# Altium footprint library AMAP4PEVB_Rev3.PcbLib: 7 footprints
Each footprint in its own frame and in the unit in brackets; x right, y up, seen from the top. Pads: shape width x height; smd on the part's side, far side on the other; paste and mask are expansions set on the pad; w line width, h text height; cw(c..) or ccw(c..) is an arc to the next point about the centre after c.
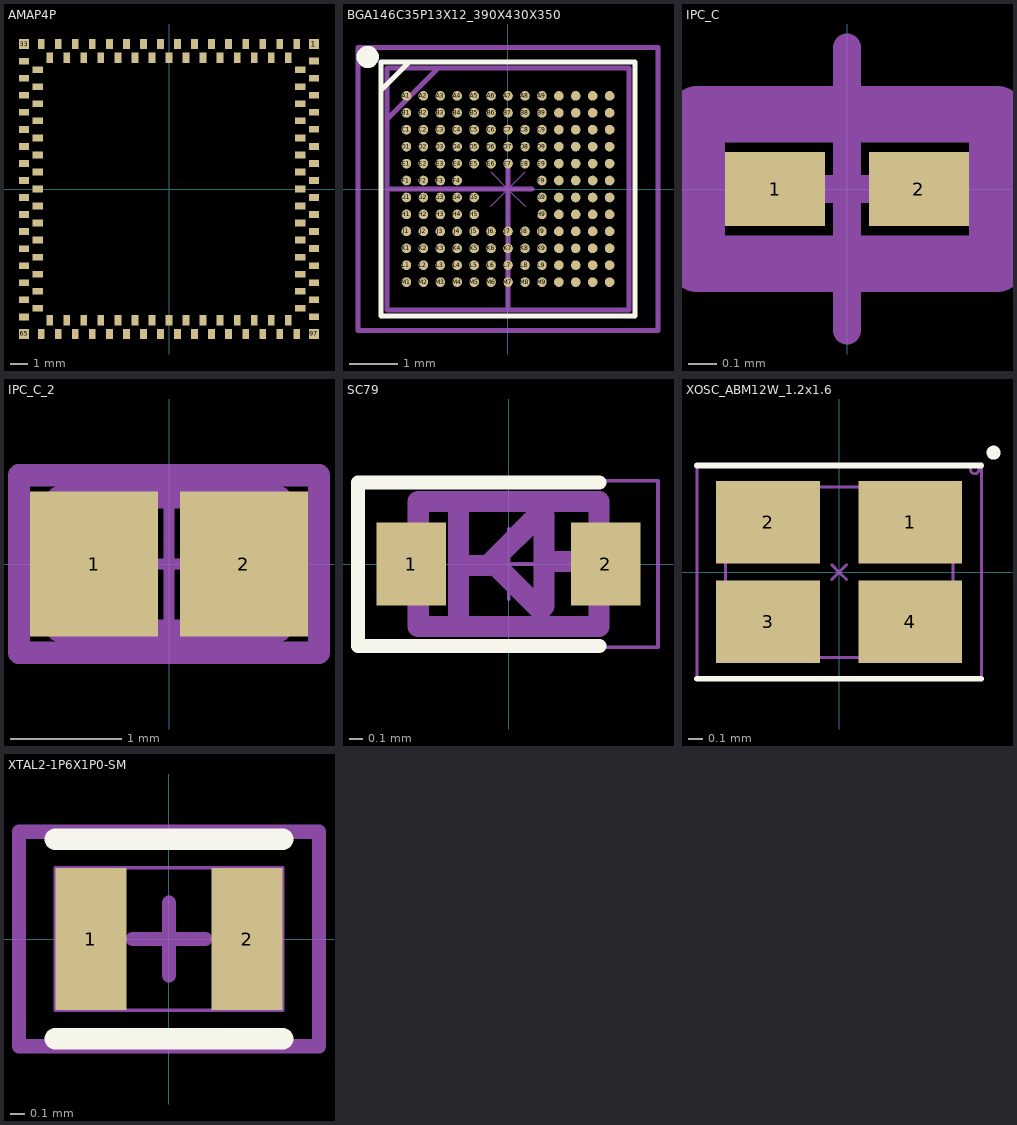
[diagram p0: the footprints below, top view; thin cyan lines are the x and y axes]

## AMAP4P [mm]
pads (128):
  rect 0.6x0.6 smd: 1(8.5,8.5) 33(-8.5,8.5) 65(-8.5,-8.5) 97(8.5,-8.5)
  rect 0.4x0.6 smd: 2(7.5,8.5) 3(7,7.7) 4(6.5,8.5) 5(6,7.7) 6(5.5,8.5) 7(5,7.7) 8(4.5,8.5) 9(4,7.7) 10(3.5,8.5) 11(3,7.7) 12(2.5,8.5) 13(2,7.7) 14(1.5,8.5) 15(1,7.7) 16(0.5,8.5) 17(0,7.7) 18(-0.5,8.5) 19(-1,7.7) 20(-1.5,8.5) 21(-2,7.7) 22(-2.5,8.5) 23(-3,7.7) 24(-3.5,8.5) 25(-4,7.7) 26(-4.5,8.5) 27(-5,7.7) 28(-5.5,8.5) 29(-6,7.7) 30(-6.5,8.5) 31(-7,7.7) 32(-7.5,8.5) 66(-7.5,-8.5) 67(-7,-7.7) 68(-6.5,-8.5) 69(-6,-7.7) 70(-5.5,-8.5) 71(-5,-7.7) 72(-4.5,-8.5) 73(-4,-7.7) 74(-3.5,-8.5) 75(-3,-7.7) 76(-2.5,-8.5) 77(-2,-7.7) 78(-1.5,-8.5) 79(-1,-7.7) 80(-0.5,-8.5) 81(0,-7.7) 82(0.5,-8.5) 83(1,-7.7) 84(1.5,-8.5) 85(2,-7.7) 86(2.5,-8.5) 87(3,-7.7) 88(3.5,-8.5) 89(4,-7.7) 90(4.5,-8.5) 91(5,-7.7) 92(5.5,-8.5) 93(6,-7.7) 94(6.5,-8.5) 95(7,-7.7) 96(7.5,-8.5)
  rect 0.6x0.4 smd: 34(-8.5,7.5) 35(-7.7,7) 36(-8.5,6.5) 37(-7.7,6) 38(-8.5,5.5) 39(-7.7,5) 40(-8.5,4.5) 41(-7.7,4) 42(-8.5,3.5) 43(-7.7,3) 44(-8.5,2.5) 45(-7.7,2) 46(-8.5,1.5) 47(-7.7,1) 48(-8.5,0.5) 49(-7.7,0) 50(-8.5,-0.5) 51(-7.7,-1) 52(-8.5,-1.5) 53(-7.7,-2) 54(-8.5,-2.5) 55(-7.7,-3) 56(-8.5,-3.5) 57(-7.7,-4) 58(-8.5,-4.5) 59(-7.7,-5) 60(-8.5,-5.5) 61(-7.7,-6) 62(-8.5,-6.5) 63(-7.7,-7) 64(-8.5,-7.5) 98(8.5,-7.5) 99(7.7,-7) 100(8.5,-6.5) 101(7.7,-6) 102(8.5,-5.5) 103(7.7,-5) 104(8.5,-4.5) 105(7.7,-4) 106(8.5,-3.5) 107(7.7,-3) 108(8.5,-2.5) 109(7.7,-2) 110(8.5,-1.5) 111(7.7,-1) 112(8.5,-0.5) 113(7.7,0) 114(8.5,0.5) 115(7.7,1) 116(8.5,1.5) 117(7.7,2) 118(8.5,2.5) 119(7.7,3) 120(8.5,3.5) 121(7.7,4) 122(8.5,4.5) 123(7.7,5) 124(8.5,5.5) 125(7.7,6) 126(8.5,6.5) 127(7.7,7) 128(8.5,7.5)

## BGA146C35P13X12_390X430X350 [mm] "BGA, 146-Leads, Body 3.91x4.31mmx3.50mm, Pitch 0.35mm"
height 3.5
pads (146):
  round 0.2 smd paste+0 mask+0.03: A1(-2.1,1.925) A2(-1.75,1.925) A3(-1.4,1.925) A4(-1.05,1.925) A5(-0.7,1.925) A6(-0.35,1.925) A7(0,1.925) A8(0.35,1.925) A9(0.7,1.925) A10(1.05,1.925) A11(1.4,1.925) A12(1.75,1.925) A13(2.1,1.925) B1(-2.1,1.575) B2(-1.75,1.575) B3(-1.4,1.575) B4(-1.05,1.575) B5(-0.7,1.575) B6(-0.35,1.575) B7(0,1.575) B8(0.35,1.575) B9(0.7,1.575) B10(1.05,1.575) B11(1.4,1.575) B12(1.75,1.575) B13(2.1,1.575) C1(-2.1,1.225) C2(-1.75,1.225) C3(-1.4,1.225) C4(-1.05,1.225) C5(-0.7,1.225) C6(-0.35,1.225) C7(0,1.225) C8(0.35,1.225) C9(0.7,1.225) C10(1.05,1.225) C11(1.4,1.225) C12(1.75,1.225) C13(2.1,1.225) D1(-2.1,0.875) D2(-1.75,0.875) D3(-1.4,0.875) D4(-1.05,0.875) D5(-0.7,0.875) D6(-0.35,0.875) D7(0,0.875) D8(0.35,0.875) D9(0.7,0.875) D10(1.05,0.875) D11(1.4,0.875) D12(1.75,0.875) D13(2.1,0.875) E1(-2.1,0.525) E2(-1.75,0.525) E3(-1.4,0.525) E4(-1.05,0.525) E5(-0.7,0.525) E6(-0.35,0.525) E7(0,0.525) E8(0.35,0.525) E9(0.7,0.525) E10(1.05,0.525) E11(1.4,0.525) E12(1.75,0.525) E13(2.1,0.525) F1(-2.1,0.175) F2(-1.75,0.175) F3(-1.4,0.175) F4(-1.05,0.175) F9(0.7,0.175) F10(1.05,0.175) F11(1.4,0.175) F12(1.75,0.175) F13(2.1,0.175) G1(-2.1,-0.175) G2(-1.75,-0.175) G3(-1.4,-0.175) G4(-1.05,-0.175) G5(-0.7,-0.175) G9(0.7,-0.175) G10(1.05,-0.175) G11(1.4,-0.175) G12(1.75,-0.175) G13(2.1,-0.175) H1(-2.1,-0.525) H2(-1.75,-0.525) H3(-1.4,-0.525) H4(-1.05,-0.525) H5(-0.7,-0.525) H9(0.7,-0.525) H10(1.05,-0.525) H11(1.4,-0.525) H12(1.75,-0.525) H13(2.1,-0.525) J1(-2.1,-0.875) J2(-1.75,-0.875) J3(-1.4,-0.875) J4(-1.05,-0.875) J5(-0.7,-0.875) J6(-0.35,-0.875) J7(0,-0.875) J8(0.35,-0.875) J9(0.7,-0.875) J10(1.05,-0.875) J11(1.4,-0.875) J12(1.75,-0.875) J13(2.1,-0.875) K1(-2.1,-1.225) K2(-1.75,-1.225) K3(-1.4,-1.225) K4(-1.05,-1.225) K5(-0.7,-1.225) K6(-0.35,-1.225) K7(0,-1.225) K8(0.35,-1.225) K9(0.7,-1.225) K10(1.05,-1.225) K11(1.4,-1.225) K12(1.75,-1.225) K13(2.1,-1.225) L1(-2.1,-1.575) L2(-1.75,-1.575) L3(-1.4,-1.575) L4(-1.05,-1.575) L5(-0.7,-1.575) L6(-0.35,-1.575) L7(0,-1.575) L8(0.35,-1.575) L9(0.7,-1.575) L10(1.05,-1.575) L11(1.4,-1.575) L12(1.75,-1.575) L13(2.1,-1.575) M1(-2.1,-1.925) M2(-1.75,-1.925) M3(-1.4,-1.925) M4(-1.05,-1.925) M5(-0.7,-1.925) M6(-0.35,-1.925) M7(0,-1.925) M8(0.35,-1.925) M9(0.7,-1.925) M10(1.05,-1.925) M11(1.4,-1.925) M12(1.75,-1.925) M13(2.1,-1.925)
Top Overlay:
  circle w0.25: c-2.899,2.73 r0.106
  lines w0.102: -2.625,2.051 -2.615,2.051 -2.042,2.625 -2.048,2.625 ; -2.625,-2.625 2.625,-2.625 2.625,2.625 -2.625,2.625 -2.625,-2.625
Top Assembly:
  lines w0.102: -2.5,1.444 -1.447,2.497 ; -2.282,2.5 -2.276,2.5 ; -2.5,-2.5 2.5,-2.5 2.5,2.5 -2.5,2.5 -2.5,-2.5 ; -2.5,-2.5 0,-2.5 0,0 -2.5,0 -2.5,-2.5
  text "MRAM Location Quadrant" at -2.511,-2.5 h0.51
Top Courtyard:
  lines w0.102: -3.1,-2.925 3.1,-2.925 3.1,2.925 -3.1,2.925 -3.1,-2.925
Top Component Center:
  lines w0.025: -0.354,-0.354 0,0 ; -0.354,0.354 0,0 ; 0.354,-0.354 0,0 ; 0.354,0.354 0,0
  lines w0.1: -0.5,0 0,0 ; 0,-0.5 0,0 ; 0,0.5 0,0 ; 0.5,0 0,0
3D body: height 0.4, standoff 0, extent 1.9,1.725 2.3,2.125
3D body: height 0.4, standoff 0, extent 1.9,1.375 2.3,1.775
3D body: height 0.4, standoff 0, extent 1.9,1.025 2.3,1.425
3D body: height 0.4, standoff 0, extent 1.55,1.725 1.95,2.125
3D body: height 0.4, standoff 0, extent 1.55,1.375 1.95,1.775
3D body: height 0.4, standoff 0, extent 1.55,1.025 1.95,1.425
3D body: height 0.4, standoff 0, extent -2.3,-2.125 -1.9,-1.725
3D body: height 0.4, standoff 0, extent -2.3,-1.775 -1.9,-1.375
3D body: height 0.4, standoff 0, extent -2.3,-1.425 -1.9,-1.025
3D body: height 0.4, standoff 0, extent -1.95,-2.125 -1.55,-1.725
3D body: height 0.4, standoff 0, extent -1.95,-1.775 -1.55,-1.375
3D body: height 0.4, standoff 0, extent -1.95,-1.425 -1.55,-1.025
3D body: height 0.4, standoff 0, extent -2.3,1.725 -1.9,2.125
3D body: height 0.4, standoff 0, extent -2.3,1.375 -1.9,1.775
3D body: height 0.4, standoff 0, extent -2.3,1.025 -1.9,1.425
3D body: height 0.4, standoff 0, extent -1.95,1.725 -1.55,2.125
3D body: height 0.4, standoff 0, extent -1.95,1.375 -1.55,1.775
3D body: height 0.4, standoff 0, extent -1.95,1.025 -1.55,1.425
3D body: height 0.4, standoff 0, extent 1.9,-2.125 2.3,-1.725
3D body: height 0.4, standoff 0, extent 1.9,-1.775 2.3,-1.375
3D body: height 0.4, standoff 0, extent 1.9,-1.425 2.3,-1.025
3D body: height 0.4, standoff 0, extent 1.55,-2.125 1.95,-1.725
3D body: height 0.4, standoff 0, extent 1.55,-1.775 1.95,-1.375
3D body: height 0.4, standoff 0, extent 1.55,-1.425 1.95,-1.025
3D body: height 0.4, standoff 0, extent -1.6,1.725 -1.2,2.125
3D body: height 0.4, standoff 0, extent -1.6,1.375 -1.2,1.775
3D body: height 0.4, standoff 0, extent -1.6,1.025 -1.2,1.425
3D body: height 0.4, standoff 0, extent -1.25,1.725 -0.85,2.125
3D body: height 0.4, standoff 0, extent -1.25,1.375 -0.85,1.775
3D body: height 0.4, standoff 0, extent -1.25,1.025 -0.85,1.425
3D body: height 0.4, standoff 0, extent -0.9,1.725 -0.5,2.125
3D body: height 0.4, standoff 0, extent -0.9,1.375 -0.5,1.775
3D body: height 0.4, standoff 0, extent -0.9,1.025 -0.5,1.425
3D body: height 0.4, standoff 0, extent -0.55,1.725 -0.15,2.125
3D body: height 0.4, standoff 0, extent -0.55,1.375 -0.15,1.775
3D body: height 0.4, standoff 0, extent -0.55,1.025 -0.15,1.425
3D body: height 0.4, standoff 0, extent -0.2,1.725 0.2,2.125
3D body: height 0.4, standoff 0, extent -0.2,1.375 0.2,1.775
3D body: height 0.4, standoff 0, extent -0.2,1.025 0.2,1.425
3D body: height 0.4, standoff 0, extent 0.15,1.725 0.55,2.125
3D body: height 0.4, standoff 0, extent 0.15,1.375 0.55,1.775
3D body: height 0.4, standoff 0, extent 0.15,1.025 0.55,1.425
3D body: height 0.4, standoff 0, extent -2.3,0.675 -1.9,1.075
3D body: height 0.4, standoff 0, extent -2.3,0.325 -1.9,0.725
3D body: height 0.4, standoff 0, extent -2.3,-0.025 -1.9,0.375
3D body: height 0.4, standoff 0, extent -1.95,0.675 -1.55,1.075
3D body: height 0.4, standoff 0, extent -1.95,0.325 -1.55,0.725
3D body: height 0.4, standoff 0, extent -1.95,-0.025 -1.55,0.375
3D body: height 0.4, standoff 0, extent -1.6,0.675 -1.2,1.075
3D body: height 0.4, standoff 0, extent -1.6,0.325 -1.2,0.725
3D body: height 0.4, standoff 0, extent -1.6,-0.025 -1.2,0.375
3D body: height 0.4, standoff 0, extent -1.25,0.675 -0.85,1.075
3D body: height 0.4, standoff 0, extent -1.25,0.325 -0.85,0.725
3D body: height 0.4, standoff 0, extent -1.25,-0.025 -0.85,0.375
3D body: height 0.4, standoff 0, extent -2.3,-0.375 -1.9,0.025
3D body: height 0.4, standoff 0, extent -2.3,-0.725 -1.9,-0.325
3D body: height 0.4, standoff 0, extent -2.3,-1.075 -1.9,-0.675
3D body: height 0.4, standoff 0, extent -1.95,-0.375 -1.55,0.025
3D body: height 0.4, standoff 0, extent -1.95,-0.725 -1.55,-0.325
3D body: height 0.4, standoff 0, extent -1.95,-1.075 -1.55,-0.675
3D body: height 0.4, standoff 0, extent -1.6,-0.375 -1.2,0.025
3D body: height 0.4, standoff 0, extent -1.6,-0.725 -1.2,-0.325
3D body: height 0.4, standoff 0, extent -1.6,-1.075 -1.2,-0.675
3D body: height 0.4, standoff 0, extent -1.25,-0.375 -0.85,0.025
3D body: height 0.4, standoff 0, extent -1.25,-0.725 -0.85,-0.325
3D body: height 0.4, standoff 0, extent -1.25,-1.075 -0.85,-0.675
3D body: height 0.4, standoff 0, extent -1.6,-1.425 -1.2,-1.025
3D body: height 0.4, standoff 0, extent -1.6,-1.775 -1.2,-1.375
3D body: height 0.4, standoff 0, extent -1.6,-2.125 -1.2,-1.725
3D body: height 0.4, standoff 0, extent -1.25,-1.425 -0.85,-1.025
3D body: height 0.4, standoff 0, extent -1.25,-1.775 -0.85,-1.375
3D body: height 0.4, standoff 0, extent -1.25,-2.125 -0.85,-1.725
3D body: height 0.4, standoff 0, extent -0.9,-1.425 -0.5,-1.025
3D body: height 0.4, standoff 0, extent -0.9,-1.775 -0.5,-1.375
3D body: height 0.4, standoff 0, extent -0.9,-2.125 -0.5,-1.725
3D body: height 0.4, standoff 0, extent -0.55,-1.425 -0.15,-1.025
3D body: height 0.4, standoff 0, extent -0.55,-1.775 -0.15,-1.375
3D body: height 0.4, standoff 0, extent -0.55,-2.125 -0.15,-1.725
3D body: height 0.4, standoff 0, extent -0.2,-1.425 0.2,-1.025
3D body: height 0.4, standoff 0, extent -0.2,-1.775 0.2,-1.375
3D body: height 0.4, standoff 0, extent -0.2,-2.125 0.2,-1.725
3D body: height 0.4, standoff 0, extent 0.15,-1.425 0.55,-1.025
3D body: height 0.4, standoff 0, extent 0.15,-1.775 0.55,-1.375
3D body: height 0.4, standoff 0, extent 0.15,-2.125 0.55,-1.725
3D body: height 0.4, standoff 0, extent 0.5,-1.425 0.9,-1.025
3D body: height 0.4, standoff 0, extent 0.5,-1.775 0.9,-1.375
3D body: height 0.4, standoff 0, extent 0.5,-2.125 0.9,-1.725
3D body: height 0.4, standoff 0, extent 0.85,-1.425 1.25,-1.025
3D body: height 0.4, standoff 0, extent 0.85,-1.775 1.25,-1.375
3D body: height 0.4, standoff 0, extent 0.85,-2.125 1.25,-1.725
3D body: height 0.4, standoff 0, extent 0.85,-0.375 1.25,0.025
3D body: height 0.4, standoff 0, extent 0.85,-0.725 1.25,-0.325
3D body: height 0.4, standoff 0, extent 0.85,-1.075 1.25,-0.675
3D body: height 0.4, standoff 0, extent 1.2,-0.375 1.6,0.025
3D body: height 0.4, standoff 0, extent 1.2,-0.725 1.6,-0.325
3D body: height 0.4, standoff 0, extent 1.2,-1.075 1.6,-0.675
3D body: height 0.4, standoff 0, extent 1.55,-0.375 1.95,0.025
3D body: height 0.4, standoff 0, extent 1.55,-0.725 1.95,-0.325
3D body: height 0.4, standoff 0, extent 1.55,-1.075 1.95,-0.675
3D body: height 0.4, standoff 0, extent 1.9,-0.375 2.3,0.025
3D body: height 0.4, standoff 0, extent 1.9,-0.725 2.3,-0.325
3D body: height 0.4, standoff 0, extent 1.9,-1.075 2.3,-0.675
3D body: height 0.4, standoff 0, extent 0.85,0.675 1.25,1.075
3D body: height 0.4, standoff 0, extent 0.85,0.325 1.25,0.725
3D body: height 0.4, standoff 0, extent 0.85,-0.025 1.25,0.375
3D body: height 0.4, standoff 0, extent 1.2,0.675 1.6,1.075
3D body: height 0.4, standoff 0, extent 1.2,0.325 1.6,0.725
3D body: height 0.4, standoff 0, extent 1.2,-0.025 1.6,0.375
3D body: height 0.4, standoff 0, extent 1.55,0.675 1.95,1.075
3D body: height 0.4, standoff 0, extent 1.55,0.325 1.95,0.725
3D body: height 0.4, standoff 0, extent 1.55,-0.025 1.95,0.375
3D body: height 0.4, standoff 0, extent 1.9,0.675 2.3,1.075
3D body: height 0.4, standoff 0, extent 1.9,0.325 2.3,0.725
3D body: height 0.4, standoff 0, extent 1.9,-0.025 2.3,0.375
3D body: height 0.58, standoff 0.18, extent -2.5,-2.5 2.5,2.5
3D body: height 0.4, standoff 0, extent 1.2,1.725 1.6,2.125
3D body: height 0.4, standoff 0, extent 1.2,1.375 1.6,1.775
3D body: height 0.4, standoff 0, extent 1.2,1.025 1.6,1.425
3D body: height 0.4, standoff 0, extent 0.85,1.725 1.25,2.125
3D body: height 0.4, standoff 0, extent 0.85,1.375 1.25,1.775
3D body: height 0.4, standoff 0, extent 0.85,1.025 1.25,1.425
3D body: height 0.4, standoff 0, extent -0.9,0.675 -0.5,1.075
3D body: height 0.4, standoff 0, extent -0.55,0.675 -0.15,1.075
3D body: height 0.4, standoff 0, extent -0.2,0.675 0.2,1.075
3D body: height 0.4, standoff 0, extent -0.9,0.325 -0.5,0.725
3D body: height 0.4, standoff 0, extent -0.55,0.325 -0.15,0.725
3D body: height 0.4, standoff 0, extent -0.2,0.325 0.2,0.725
3D body: height 0.4, standoff 0, extent 1.2,-2.125 1.6,-1.725
3D body: height 0.4, standoff 0, extent 1.2,-1.775 1.6,-1.375
3D body: height 0.4, standoff 0, extent 1.2,-1.425 1.6,-1.025
3D body: height 0.4, standoff 0, extent -0.9,-0.375 -0.5,0.025
3D body: height 0.4, standoff 0, extent -0.9,-0.725 -0.5,-0.325
3D body: height 0.4, standoff 0, extent -0.9,-1.075 -0.5,-0.675
3D body: height 0.4, standoff 0, extent -0.55,-1.075 -0.15,-0.675
3D body: height 0.4, standoff 0, extent -0.2,-1.075 0.2,-0.675
3D body: height 0.4, standoff 0, extent 0.15,-1.075 0.55,-0.675
3D body: height 0.4, standoff 0, extent 0.5,-1.075 0.9,-0.675
3D body: height 0.4, standoff 0, extent 0.5,-0.725 0.9,-0.325
3D body: height 0.4, standoff 0, extent 0.5,-0.375 0.9,0.025
3D body: height 0.4, standoff 0, extent 0.5,1.725 0.9,2.125
3D body: height 0.4, standoff 0, extent 0.5,1.375 0.9,1.775
3D body: height 0.4, standoff 0, extent 0.5,1.025 0.9,1.425
3D body: height 0.4, standoff 0, extent 0.5,0.675 0.9,1.075
3D body: height 0.4, standoff 0, extent 0.5,0.325 0.9,0.725
3D body: height 0.4, standoff 0, extent 0.5,-0.025 0.9,0.375
3D body: height 0.4, standoff 0, extent 0.15,0.675 0.55,1.075
3D body: height 0.4, standoff 0, extent 0.15,0.325 0.55,0.725

## IPC_C [mm]
pads (2):
  rect 0.354x0.263 smd mask+0.025: 1(-0.254,0) 2(0.254,0)
Top Assembly:
  lines w0.2: -0.531,-0.265 0.531,-0.265 0.531,0.265 -0.531,0.265 -0.531,-0.265
Top Courtyard:
  lines w0.2: -0.531,-0.265 0.531,-0.265 0.531,0.265 -0.531,0.265 -0.531,-0.265
Top Component Center:
  lines w0.1: -0.5,0 0.5,0 ; 0,-0.5 0,0.5
3D body: height 0.33, standoff 0, extent 0.165,-0.165 0.315,0.165
3D body: height 0.33, standoff 0, extent -0.315,-0.165 -0.165,0.165
3D body: height 0.33, standoff 0, extent -0.165,-0.165 0.165,0.165

## IPC_C_2 [mm]
pads (2):
  rect 1.154x1.306 smd mask+0.051: 1(-0.676,0) 2(0.676,0)
Top Assembly:
  lines w0.2: -1.353,-0.8 1.353,-0.8 1.353,0.8 -1.353,0.8 -1.353,-0.8
Top 3D Body:
  lines w0.2: -1,-0.6 1,-0.6 1,0.6 -1,0.6 -1,-0.6
Top Courtyard:
  lines w0.2: -1.353,-0.8 1.353,-0.8 1.353,0.8 -1.353,0.8 -1.353,-0.8
Top Component Center:
  lines w0.1: -0.5,0 0.5,0 ; 0,-0.5 0,0.5
3D body "Ind_Murata_DFE201210U-2R2M=P2_eec.STEP": height 0.25, standoff 0, extent -1.353,-0.8 1.353,0.8

## SC79 [mm] "SC79"
pads (2):
  rect 0.5x0.6 smd paste-0.05 mask+0.05: 1(-0.7,0) 2(0.7,0)
Top Overlay:
  lines w0.102: 0.652,-0.591 -1.085,-0.591 -1.085,0.588 0.652,0.588
Top Assembly:
  lines w0.152: -0.361,-0.442 -0.361,0.381 ; -0.348,-0.01 -0.147,-0.01 -0.119,0.018 ; 0.254,0.018 0.577,0.018 ; -0.119,0.018 0.213,0.351 0.254,0.351 0.254,-0.302 0.229,-0.33 -0.119,0.018 ; -0.65,-0.45 -0.65,0.45 0.65,0.45 0.65,-0.45 -0.65,-0.45
Top Courtyard:
  lines w0.025: -1.075,-0.6 1.075,-0.6 1.075,0.6 -1.075,0.6 -1.075,-0.6
Top Component Center:
  lines w0.025: -0.254,0 0.254,0 ; 0,-0.254 0,0.254

## XOSC_ABM12W_1.2x1.6 [mm] "Footprint for the ABM12W series of Xtal oscilators"
height 0.4
pads (4):
  rect 0.73x0.58 smd mask+0.03: 1(0.5,0.35) 2(-0.5,0.35) 3(-0.5,-0.35) 4(0.5,-0.35)
Top Overlay:
  circle w0.05: c1.086,0.841 r0.024
  lines w0.04: -1,-0.75 1,-0.75 ; -1,0.75 1,0.75
Top Assembly:
  circle w0.02: c0.953,0.722 r0.029
  lines w0.02: -0.8,-0.6 0.8,-0.6 0.8,0.6 -0.8,0.6 -0.8,-0.6
Top Courtyard:
  lines w0.02: -1,-0.75 1,-0.75 1,0.75 -1,0.75 -1,-0.75
Top Component Center:
  lines w0.02: -0.052,-0.052 0,0 ; -0.052,0.052 0,0 ; 0.052,-0.052 0,0 ; 0.052,0.052 0,0
3D body "ABM12W.STEP": height 0.4, standoff 0, extent -0.8,-0.6 0.8,0.6

## XTAL2-1P6X1P0-SM [mm] "XTAL2-1P6X1P0-SM"
pads (2):
  rect 0.5x1.001 smd: 1(-0.549,0) 2(0.549,0)
Top Overlay:
  lines w0.15: -0.8,-0.701 0.8,-0.701 ; -0.8,0.701 0.8,0.701
Top Assembly:
  lines w0.025: -0.8,-0.5 0.8,-0.5 0.8,0.5 -0.8,0.5 -0.8,-0.5
Top Courtyard:
  lines w0.102: -1.054,-0.754 -1.054,0.754 1.054,0.754 1.054,-0.754 -1.054,-0.754
Top Component Center:
  lines w0.102: -0.254,0 0.254,0 ; 0,-0.254 0,0.254
3D body: height 0.5, standoff 0, extent -0.8,-0.5 0.8,0.5